# Altium schematic symbol library Schlib_Kremny_Group.SchLib: 35 symbols
Pins are listed as number, name and electrical type; pins without a type are passive.

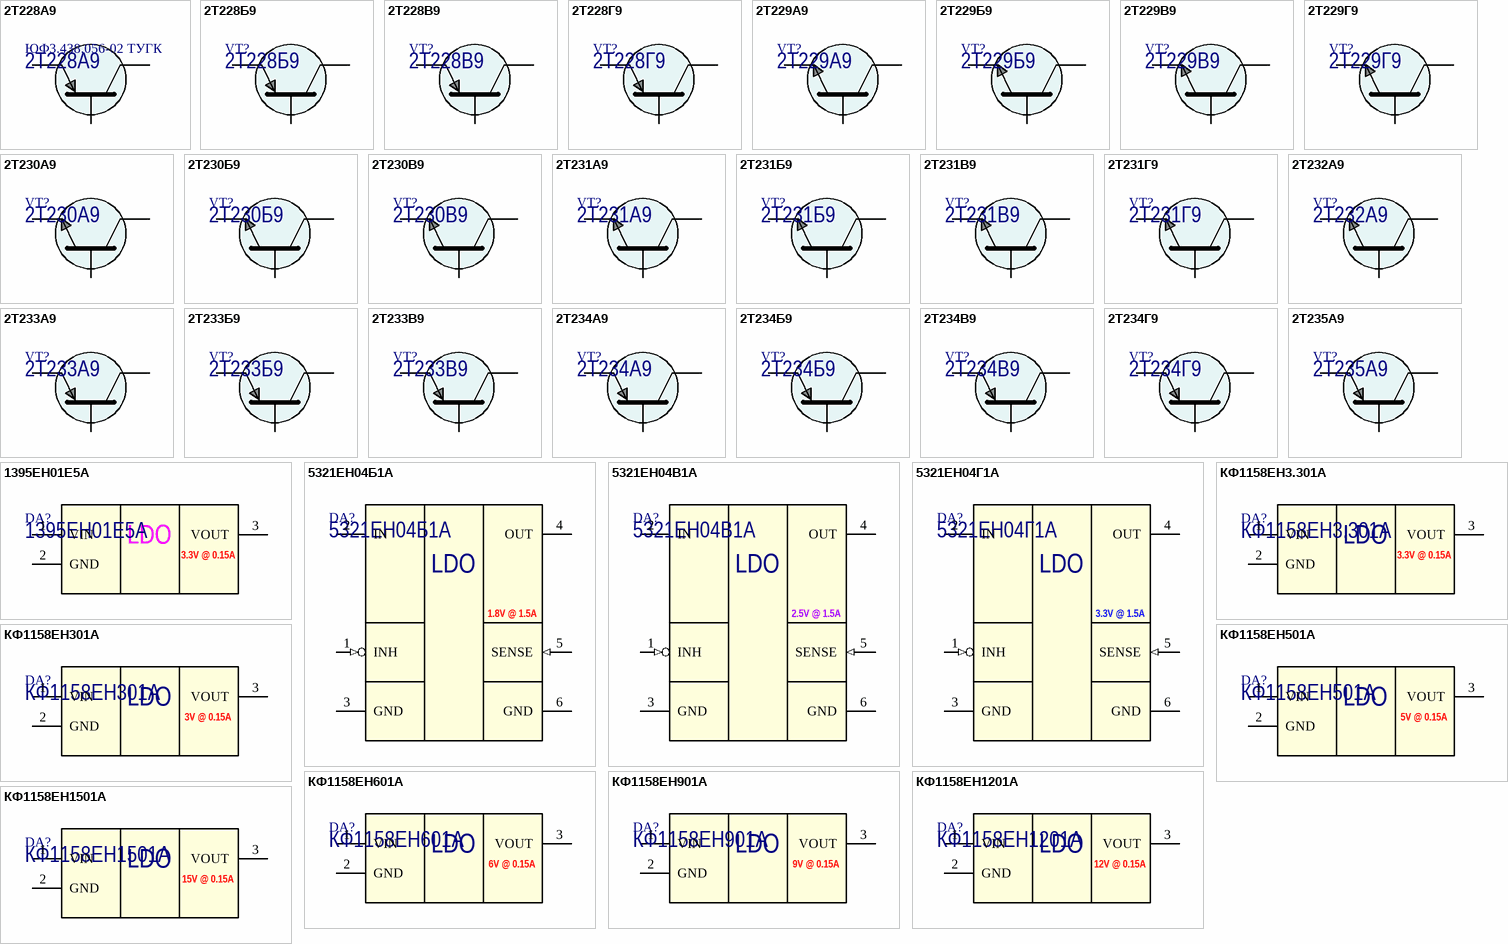
[diagram p0: symbols 2Т228А9 to КФ1158ЕН1501А]

## 2Т228А9
designator ЮФ3.438.056-02 ТУГК
General BJT PNP as ВС807; Manufacturer: АО «ГРУППА КРЕМНИЙ ЭЛ»; ТУ: АЕЯР.432140.820 ТУ; Package: КТ-46(SOT23-3); Part Number: 2Т228А9; Reference: ВС807
footprint KT-46
pins: 1 B, 2 E, 3 C

## 2Т228Б9
designator VT?
General BJT PNP as ВС807-16; Manufacturer: АО «ГРУППА КРЕМНИЙ ЭЛ»; ТУ: АЕЯР.432140.820 ТУ; Package: КТ-46(SOT23-3); Part Number: 2Т228Б9; Reference: ВС807-16
footprint KT-46
pins: 1 B, 2 E, 3 C

## 2Т228В9
designator VT?
General BJT PNP as ВС807-25; Manufacturer: АО «ГРУППА КРЕМНИЙ ЭЛ»; ТУ: АЕЯР.432140.820 ТУ; Package: КТ-46(SOT23-3); Part Number: 2Т228В9; Reference: ВС807-25
footprint KT-46
pins: 1 B, 2 E, 3 C

## 2Т228Г9
designator VT?
General BJT PNP as ВС807-40; Manufacturer: АО «ГРУППА КРЕМНИЙ ЭЛ»; ТУ: АЕЯР.432140.820 ТУ; Package: КТ-46(SOT23-3); Part Number: 2Т228Г9; Reference: ВС807-40
footprint KT-46
pins: 1 B, 2 E, 3 C

## 2Т229А9
designator VT?
General BJT NPN as ВС817; Manufacturer: АО «ГРУППА КРЕМНИЙ ЭЛ»; ТУ: АЕЯР.432140.820 ТУ; Package: КТ-46(SOT23-3); Part Number: 2Т229А9; Reference: ВС817
footprint KT-46
pins: 1 B, 2 E, 3 C

## 2Т229Б9
designator VT?
General BJT NPN as ВС817-16; Manufacturer: АО «ГРУППА КРЕМНИЙ ЭЛ»; ТУ: АЕЯР.432140.820 ТУ; Package: КТ-46(SOT23-3); Part Number: 2Т229Б9; Reference: ВС817-16
footprint KT-46
pins: 1 B, 2 E, 3 C

## 2Т229В9
designator VT?
General BJT NPN as ВС817-25; Manufacturer: АО «ГРУППА КРЕМНИЙ ЭЛ»; ТУ: АЕЯР.432140.820 ТУ; Package: КТ-46(SOT23-3); Part Number: 2Т229В9; Reference: ВС817-25
footprint KT-46
pins: 1 B, 2 E, 3 C

## 2Т229Г9
designator VT?
General BJT NPN as ВС817-40; Manufacturer: АО «ГРУППА КРЕМНИЙ ЭЛ»; ТУ: АЕЯР.432140.820 ТУ; Package: КТ-46(SOT23-3); Part Number: 2Т229Г9; Reference: ВС817-40
footprint KT-46
pins: 1 B, 2 E, 3 C

## 2Т230А9
designator VT?
General BJT NPN as ВС846; Manufacturer: АО «ГРУППА КРЕМНИЙ ЭЛ»; ТУ: АЕЯР.432140.820 ТУ; Package: КТ-46(SOT23-3); Part Number: 2Т230А9; Reference: ВС846
footprint KT-46
pins: 1 B, 2 E, 3 C

## 2Т230Б9
designator VT?
General BJT NPN as ВС846А; Manufacturer: АО «ГРУППА КРЕМНИЙ ЭЛ»; ТУ: АЕЯР.432140.820 ТУ; Package: КТ-46(SOT23-3); Part Number: 2Т230Б9; Reference: ВС846А
footprint KT-46
pins: 1 B, 2 E, 3 C

## 2Т230В9
designator VT?
General BJT NPN as ВС846В; Manufacturer: АО «ГРУППА КРЕМНИЙ ЭЛ»; ТУ: АЕЯР.432140.820 ТУ; Package: КТ-46(SOT23-3); Part Number: 2Т230В9; Reference: ВС846В
footprint KT-46
pins: 1 B, 2 E, 3 C

## 2Т231А9
designator VT?
General BJT NPN as ВС847; Manufacturer: АО «ГРУППА КРЕМНИЙ ЭЛ»; ТУ: АЕЯР.432140.820 ТУ; Package: КТ-46(SOT23-3); Part Number: 2Т231А9; Reference: ВС847
footprint KT-46
pins: 1 B, 2 E, 3 C

## 2Т231Б9
designator VT?
General BJT NPN as ВС847А; Manufacturer: АО «ГРУППА КРЕМНИЙ ЭЛ»; ТУ: АЕЯР.432140.820 ТУ; Package: КТ-46(SOT23-3); Part Number: 2Т231Б9; Reference: ВС847А
footprint KT-46
pins: 1 B, 2 E, 3 C

## 2Т231В9
designator VT?
General BJT NPN as ВС847В; Manufacturer: АО «ГРУППА КРЕМНИЙ ЭЛ»; ТУ: АЕЯР.432140.820 ТУ; Package: КТ-46(SOT23-3); Part Number: 2Т231В9; Reference: ВС847В
footprint KT-46
pins: 1 B, 2 E, 3 C

## 2Т231Г9
designator VT?
General BJT NPN as ВС847С; Manufacturer: АО «ГРУППА КРЕМНИЙ ЭЛ»; ТУ: АЕЯР.432140.820 ТУ; Package: КТ-46(SOT23-3); Part Number: 2Т231Г9; Reference: ВС847С
footprint KT-46
pins: 1 B, 2 E, 3 C

## 2Т232А9
designator VT?
General BJT NPN as ВС848В; Manufacturer: АО «ГРУППА КРЕМНИЙ ЭЛ»; ТУ: АЕЯР.432140.820 ТУ; Package: КТ-46(SOT23-3); Part Number: 2Т232А9; Reference: ВС848В
footprint KT-46
pins: 1 B, 2 E, 3 C

## 2Т233А9
designator VT?
General BJT PNP as ВС856; Manufacturer: АО «ГРУППА КРЕМНИЙ ЭЛ»; ТУ: АЕЯР.432140.820 ТУ; Package: КТ-46(SOT23-3); Part Number: 2Т233А9; Reference: ВС856
footprint KT-46
pins: 1 B, 2 E, 3 C

## 2Т233Б9
designator VT?
General BJT PNP as ВС856А; Manufacturer: АО «ГРУППА КРЕМНИЙ ЭЛ»; ТУ: АЕЯР.432140.820 ТУ; Package: КТ-46(SOT23-3); Part Number: 2Т233Б9; Reference: ВС856А
footprint KT-46
pins: 1 B, 2 E, 3 C

## 2Т233В9
designator VT?
General BJT PNP as ВС856В; Manufacturer: АО «ГРУППА КРЕМНИЙ ЭЛ»; ТУ: АЕЯР.432140.820 ТУ; Package: КТ-46(SOT23-3); Part Number: 2Т233В9; Reference: ВС856В
footprint KT-46
pins: 1 B, 2 E, 3 C

## 2Т234А9
designator VT?
General BJT PNP as ВС857; Manufacturer: АО «ГРУППА КРЕМНИЙ ЭЛ»; ТУ: АЕЯР.432140.820 ТУ; Package: КТ-46(SOT23-3); Part Number: 2Т234А9; Reference: ВС857
footprint KT-46
pins: 1 B, 2 E, 3 C

## 2Т234Б9
designator VT?
General BJT PNP as ВС857А; Manufacturer: АО «ГРУППА КРЕМНИЙ ЭЛ»; ТУ: АЕЯР.432140.820 ТУ; Package: КТ-46(SOT23-3); Part Number: 2Т234Б9; Reference: ВС857А
footprint KT-46
pins: 1 B, 2 E, 3 C

## 2Т234В9
designator VT?
General BJT PNP as ВС857В; Manufacturer: АО «ГРУППА КРЕМНИЙ ЭЛ»; ТУ: АЕЯР.432140.820 ТУ; Package: КТ-46(SOT23-3); Part Number: 2Т234В9; Reference: ВС857В
footprint KT-46
pins: 1 B, 2 E, 3 C

## 2Т234Г9
designator VT?
General BJT PNP as ВС857С; Manufacturer: АО «ГРУППА КРЕМНИЙ ЭЛ»; ТУ: АЕЯР.432140.820 ТУ; Package: КТ-46(SOT23-3); Part Number: 2Т234Г9; Reference: ВС857С
footprint KT-46
pins: 1 B, 2 E, 3 C

## 2Т235А9
designator VT?
General BJT PNP as ВС858В; Manufacturer: АО «ГРУППА КРЕМНИЙ ЭЛ»; ТУ: АЕЯР.432140.820 ТУ; Package: КТ-46(SOT23-3); Part Number: 2Т235А9; Reference: ВС858В
footprint KT-46
pins: 1 B, 2 E, 3 C

## 1395ЕН01Е5А
designator DA?
3.3V @ 0.1A LDO Regulator OCP=0.7A; Manufacturer: АО «ГРУППА КРЕМНИЙ ЭЛ»; Reference: TPS763333; ТУ: АЕНВ.431420.450-01; Part Number: 1395ЕН01Е5А; Package: КТ-47 (SOT-89)
footprint SOT89-3 (SOT89, 3-Leads, Body 4.50x2.45mm, Pitch 1.50mm, Lead Span 4.1mm, IPC Medium Density)
pins: 1 VIN (power), 2 GND (power), 3 VOUT (power)
text: LDO; 3.3V @ 0.15A

## 5321ЕН04Б1А
designator DA?
1.8V @ 1.5A LDO Regulator; Manufacturer: АО «ГРУППА КРЕМНИЙ ЭЛ»; ТУ: АЕНВ.431420.461-02; Reference: LT1963; Package: 1501.5-6 (TO-263-5); Part Number: 5321ЕН04Б1А
footprint 1501.5-6
pins: 1 INH (in), 2 IN (power), 3 GND (power), 4 OUT (power), 5 SENSE (in), 6 GND (power)
text: LDO; 1.8V @ 1.5A

## 5321ЕН04В1А
designator DA?
2.5V @ 1.5A LDO Regulator; Manufacturer: АО «ГРУППА КРЕМНИЙ ЭЛ»; ТУ: АЕНВ.431420.461-02; Reference: LT1963; Package: 1501.5-6 (TO-263-5); Part Number: 5321ЕН04В1А
footprint 1501.5-6
pins: 1 INH (in), 2 IN (power), 3 GND (power), 4 OUT (power), 5 SENSE (in), 6 GND (power)
text: LDO; 2.5V @ 1.5A

## 5321ЕН04Г1А
designator DA?
3.3V @ 1.5A LDO Regulator; Manufacturer: АО «ГРУППА КРЕМНИЙ ЭЛ»; ТУ: АЕНВ.431420.461-02; Reference: LT1963; Package: 1501.5-6 (TO-263-5); Part Number: 5321ЕН04Г1А
footprint 1501.5-6
pins: 1 INH (in), 2 IN (power), 3 GND (power), 4 OUT (power), 5 SENSE (in), 6 GND (power)
text: LDO; 3.3V @ 1.5A

## КФ1158ЕН3.301А
designator DA?
3.3V @ 0.15A LDO Regulator OCP=0.7A; Manufacturer: АО «ГРУППА КРЕМНИЙ ЭЛ»; Reference: LM2931; ТУ: ЮФ3.438.056-05 ТУГК; Part Number: КФ1158ЕН3.301А; Package: КТ-89 (TO-252)
footprint TO-252-3 (D-PAK, 3-Pads, Body 6.15x6.66mm (max), IPC Medium Density)
pins: 1 VIN (power), 2 GND (power), 3 VOUT (power)
text: LDO; 3.3V @ 0.15A

## КФ1158ЕН301А 
designator DA?, comment КФ1158ЕН301А
3V @ 0.15A LDO Regulator OCP=0.7A; Manufacturer: АО «ГРУППА КРЕМНИЙ ЭЛ»; Reference: LM2931; ТУ: ЮФ3.438.056-05 ТУГК; Part Number: КФ1158ЕН301А; Package: КТ-89 (TO-252)
footprint TO-252-3 (D-PAK, 3-Pads, Body 6.15x6.66mm (max), IPC Medium Density)
pins: 1 VIN (power), 2 GND (power), 3 VOUT (power)
text: LDO; 3V @ 0.15A

## КФ1158ЕН501А
designator DA?
5V @ 0.15A LDO Regulator OCP=0.7A; Manufacturer: АО «ГРУППА КРЕМНИЙ ЭЛ»; Reference: LM2930, LM2931; ТУ: АДБК.431420.102-01 ТУ; Part Number: КФ1158ЕН501А; Package: КТ-89 (TO-252)
footprint TO-252-3 (D-PAK, 3-Pads, Body 6.15x6.66mm (max), IPC Medium Density)
pins: 1 VIN (power), 2 GND (power), 3 VOUT (power)
text: LDO; 5V @ 0.15A

## КФ1158ЕН601А
designator DA?
6V @ 0.15A LDO Regulator OCP=0.7A; Manufacturer: АО «ГРУППА КРЕМНИЙ ЭЛ»; Reference: LM2930, LM2931; ТУ: ЮФ3.438.056-07 ТУГК; Part Number: КФ1158ЕН601А; Package: КТ-89 (TO-252)
footprint TO-252-3 (D-PAK, 3-Pads, Body 6.15x6.66mm (max), IPC Medium Density)
pins: 1 VIN (power), 2 GND (power), 3 VOUT (power)
text: LDO; 6V @ 0.15A

## КФ1158ЕН901А
designator DA?
9V @ 0.15A LDO Regulator OCP=0.7A; Manufacturer: АО «ГРУППА КРЕМНИЙ ЭЛ»; Reference: LM2930, LM2931; ТУ: ЮФ3.438.056-03 ТУГК; Part Number: КФ1158ЕН901А; Package: КТ-89 (TO-252)
footprint TO-252-3 (D-PAK, 3-Pads, Body 6.15x6.66mm (max), IPC Medium Density)
pins: 1 VIN (power), 2 GND (power), 3 VOUT (power)
text: LDO; 9V @ 0.15A

## КФ1158ЕН1201А
designator DA?
12V @ 0.15A LDO Regulator OCP=0.7A; Manufacturer: АО «ГРУППА КРЕМНИЙ ЭЛ»; Reference: LM2930, LM2931; ТУ: АДБК.431420.102-04 ТУ; Part Number: КФ1158ЕН1201А; Package: КТ-89 (TO-252)
footprint TO-252-3 (D-PAK, 3-Pads, Body 6.15x6.66mm (max), IPC Medium Density)
pins: 1 VIN (power), 2 GND (power), 3 VOUT (power)
text: LDO; 12V @ 0.15A

## КФ1158ЕН1501А
designator DA?
15V @ 0.15A LDO Regulator OCP=0.7A; Manufacturer: АО «ГРУППА КРЕМНИЙ ЭЛ»; Reference: LM2930, LM2931; ТУ: ЮФ3.438.056-02 ТУГК; Part Number: КФ1158ЕН1501А; Package: КТ-89 (TO-252)
footprint TO-252-3 (D-PAK, 3-Pads, Body 6.15x6.66mm (max), IPC Medium Density)
pins: 1 VIN (power), 2 GND (power), 3 VOUT (power)
text: LDO; 15V @ 0.15A